# EAGLE library part MCP2517FD (library we-chip)
Microchip MCP2517FD CAN Controller
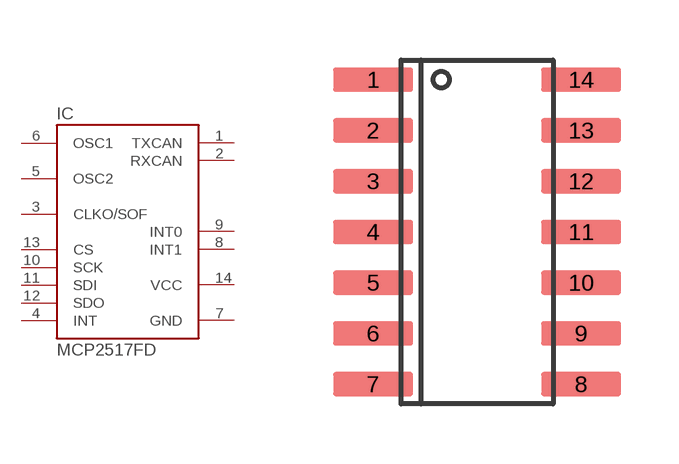
[diagram p49: symbol with the pads of SO14; footprint SO14]

Designator prefix IC

## MCP2517FDT-H/SL  [SO14]
1  TXCAN
2  RXCAN
3  CLKO/SOF
4  INT
5  OSC2
6  OSC1
7  GND  pwr
8  INT1
9  INT0
10  SCK
11  SDI
12  SDO
13  CS
14  VCC  pwr

## Footprint SO14 (pad centres in mm)
smd 2 x 0.6: 1 -2.6,3.81; 2 -2.6,2.54; 3 -2.6,1.27; 4 -2.6,0; 5 -2.6,-1.27; 6 -2.6,-2.54; 7 -2.6,-3.81; 8 2.6,-3.81; 9 2.6,-2.54; 10 2.6,-1.27; 11 2.6,0; 12 2.6,1.27; 13 2.6,2.54; 14 2.6,3.81